# Altium schematic symbol library Memory_card_reader_Schlib1.SchLib: 4 symbols
Pins are listed as number, name and electrical type; pins without a type are passive.

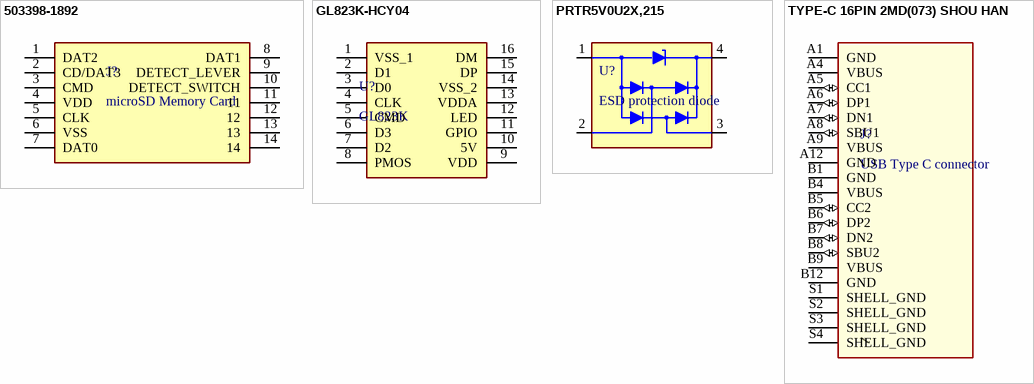
[diagram p0: symbols 503398-1892 to TYPE-C 16PIN 2MD(073) SHOU HAN]

## 503398-1892
designator J?, comment microSD Memory Card
1.10mm Pitch microSD Memory Card Connector, Normal Mount Surface Mount, Push-Push Type, 1.28mm Height; Manufacturer: Molex; Manufacturer Part Number: 503398-1892; Manufacturer Lifecycle Status: ACTIVE; Contact Resistance: 100mΩ; Current Rating: 500mA; Gender: Male; Insulation Resistance: 1GΩ; Memory Format: FLASH; Number of Circuits: 8; Number of Ports: 1; Pitch: 1.1mm; Plating: Tin; Plating Thickness: 508nm; Voltage Rating: 10V; Supplier: RS; Supplier Part Number: 8801277; RoHS: Compliant; Category: Memory Connectors; Stock: 952; Pricing: 1=1.86, 10=1.42, 20=1.39, 50=1.36, 100=1.32 (GBP); China RoHS: Compliant; Connector Type: Connector; Contact Gender: Female; Contact Material: Gold, Tin; Contact Plating: Gold; Country of Origin: VN; Depth: 14.05mm; Export Control Classification Number (ECCN) Code: EAR99; Halogen Free: Low Halogen; Height: 1.4mm; Housing Material: Stainless Steel; Harmonized Tariff Schedule (HTS) Code: 8536.69.40.40; Introduction Date: 2013-02-28; Length: 13.6mm; Lifecycle Status: Production; Max Operating Temperature: 85°C; Min Operating Temperature: -25°C; Mounting Technology: Surface Mount; Number of Contacts: 8; Pins: 8; Number of Rows: 1; Orientation: Right Angle; Packaging: Cut Tape; Radiation Hardening: No; REACH SVHC: Yes; Schedule B: 8536695050, 8536695050|8536695050, 8536695050|8536695050|8536695050, 8536695050|8536695050|8536695050|8536695050; Terminal Pitch: 1.1mm; Termination: Solder; Voltage Rating (AC): 10V; Width: 14.05mm; ComponentLink1URL: https://datasheet.octopart.com:443/503398-1892-Molex-datasheet-180775278.pdf?src-supplier=IHS; ComponentLink1Description: https://datasheet.octopart.com:443/503398-1892-Molex-datasheet-180775278.pdf?src-supplier=IHS; ComponentLink2URL: https://datasheet.octopart.com:443/503398-1892-Molex-datasheet-138898078.pdf?src-supplier=Sager+Electronics; ComponentLink2Description: https://datasheet.octopart.com:443/503398-1892-Molex-datasheet-138898078.pdf?src-supplier=Sager+Electronics; ComponentLink3URL: https://datasheet.octopart.com:443/503398-1892-Molex-datasheet-16405786.pdf?src-supplier=Sager+Electronics; ComponentLink3Description: https://datasheet.octopart.com:443/503398-1892-Molex-datasheet-16405786.pdf?src-supplier=Sager+Electronics; ComponentLink4URL: https://sigma.octopart.com:443/138898079/technical_drawing/Molex-503398-1892.pdf?src-supplier=Upverter; ComponentLink4Description: https://sigma.octopart.com:443/138898079/technical_drawing/Molex-503398-1892.pdf?src-supplier=Upverter; ComponentLink5URL: https://sigma.octopart.com:443/16405789/technical_drawing/Molex-503398-1892.pdf?src-supplier=Molex; ComponentLink5Description: https://sigma.octopart.com:443/16405789/technical_drawing/Molex-503398-1892.pdf?src-supplier=Molex; ComponentLink6URL: https://datasheet.octopart.com:443/503398-1892-Molex-datasheet-66628509.pdf?src-supplier=Farnell; ComponentLink6Description: https://datasheet.octopart.com:443/503398-1892-Molex-datasheet-66628509.pdf?src-supplier=Farnell; ComponentLink7URL: https://datasheet.octopart.com:443/503398-1892-Molex-datasheet-10952502.pdf?src-supplier=Newark; ComponentLink7Description: https://datasheet.octopart.com:443/503398-1892-Molex-datasheet-10952502.pdf?src-supplier=Newark; ComponentLink8URL: https://datasheet.octopart.com:443/503398-1892-Molex-datasheet-62087832.pdf?src-supplier=Newark; ComponentLink8Description: https://datasheet.octopart.com:443/503398-1892-Molex-datasheet-62087832.pdf?src-supplier=Newark; ComponentLink9URL: https://datasheet.octopart.com:443/503398-1892-Molex-datasheet-154753182.pdf?src-supplier=Master+Electronics; ComponentLink9Description: https://datasheet.octopart.com:443/503398-1892-Molex-datasheet-154753182.pdf?src-supplier=Master+Electronics; ComponentLink10URL: https://datasheet.octopart.com:443/503398-1892-Molex-datasheet-17852981.pdf?src-supplier=element14+APAC; ComponentLink10Description: https://datasheet.octopart.com:443/503398-1892-Molex-datasheet-17852981.pdf?src-supplier=element14+APAC; ComponentLink11URL: https://datasheet.octopart.com:443/503398-1892-Molex-datasheet-140185767.pdf?src-supplier=RS+(Formerly+Allied+Electronics); ComponentLink11Description: https://datasheet.octopart.com:443/503398-1892-Molex-datasheet-140185767.pdf?src-supplier=RS+(Formerly+Allied+Electronics); ComponentLink12URL: https://datasheet.octopart.com:443/503398-1892-Molex-datasheet-120152253.pdf?src-supplier=RS+(Formerly+Allied+Electronics); ComponentLink12Description: https://datasheet.octopart.com:443/503398-1892-Molex-datasheet-120152253.pdf?src-supplier=RS+(Formerly+Allied+Electronics); ComponentLink13URL: https://datasheet.octopart.com:443/503398-1892-Molex-datasheet-62059324.pdf?src-supplier=RS+(Formerly+Allied+Electronics); ComponentLink13Description: https://datasheet.octopart.com:443/503398-1892-Molex-datasheet-62059324.pdf?src-supplier=RS+(Formerly+Allied+Electronics); ComponentLink14URL: https://datasheet.octopart.com:443/503398-1892-Molex-datasheet-24577251.pdf?src-supplier=TME; ComponentLink14Description: https://datasheet.octopart.com:443/503398-1892-Molex-datasheet-24577251.pdf?src-supplier=TME; ComponentLink15URL: http://sigma.octopart.com:80/16405788/rohs_statement/Molex-503398-1892.pdf?src-supplier=Compliance+Statements; ComponentLink15Description: http://sigma.octopart.com:80/16405788/rohs_statement/Molex-503398-1892.pdf?src-supplier=Compliance+Statements; ComponentLink16URL: http://sigma.octopart.com:80/reach_statement/Molex-company-74.pdf?src-supplier=Compliance+Statements; ComponentLink16Description: http://sigma.octopart.com:80/reach_statement/Molex-company-74.pdf?src-supplier=Compliance+Statements; ComponentLink17URL: http://sigma.octopart.com:80/rohs_statement/Molex-company-73.pdf?src-supplier=Compliance+Statements; ComponentLink17Description: http://sigma.octopart.com:80/rohs_statement/Molex-company-73.pdf?src-supplier=Compliance+Statements; ComponentLink18URL: http://sigma.octopart.com:80/conflict_mineral_statement/Molex-company-72.pdf?src-supplier=Compliance+Statements; ComponentLink18Description: http://sigma.octopart.com:80/conflict_mineral_statement/Molex-company-72.pdf?src-supplier=Compliance+Statements
footprint 5033981892
pins: 1 DAT2, 2 CD/DAT3, 3 CMD, 4 VDD, 5 CLK, 6 VSS, 7 DAT0, 8 DAT1, 9 DETECT_LEVER, 10 DETECT_SWITCH, 11, 12, 13, 14

## GL823K-HCY04
designator U?, comment GL823K
USB 2.0 card reader controller
footprint SOP64P600X175-16N
pins: 1 VSS_1, 2 D1, 3 D0, 4 CLK, 5 CMD, 6 D3, 7 D2, 8 PMOS, 9 VDD, 10 5V, 11 GPIO, 12 LED, 13 VDDA, 14 VSS_2, 15 DP, 16 DM

## PRTR5V0U2X,215
designator U?, comment ESD protection diode
PRTR Series 9 V 1 pF Rail-to-Rail ESD Protection Diode - SOT-143B; Manufacturer: Nexperia; Manufacturer Part Number: PRTR5V0U2X,215; Manufacturer Lifecycle Status: RELEASED FOR SUPPLY; Breakdown Voltage: 7.5V; Value: 1pF; Direction: Bidirectional; Max Breakdown Voltage: 9V; Min Breakdown Voltage: 6V; Number of Channels: 2; Number of Elements: 1; Operating Supply Voltage: 700mV; Peak Reverse Current: 100nA; Polarity: Unidirectional; Reverse Standoff Voltage: 3V; Supplier: DigiKey; Supplier Part Number: 1727-3884-1-ND; RoHS: Compliant; Category: ESD and Circuit Protection ICs; Pricing: 1=0.66, 10=0.41, 100=0.2626, 500=0.19912, 1000=0.17862, 3000=0.15255, 6000=0.13942, 9000=0.13273, 15000=0.1252, 21000=0.12075, 30000=0.11642, 75000=0.11275 (USD); Ambient Temperature Range High: 85°C; China RoHS: Compliant; Contact Plating: Tin; Country of Origin: Mainland China; Export Control Classification Number (ECCN) Code: EAR99; Height: 1.1mm; Harmonized Tariff Schedule (HTS) Code: 8541.10.00.50; Introduction Date: 2005-09-23; Lifecycle Status: Production; Max Operating Temperature: 85°C; Min Operating Temperature: -40°C; Pins: 4; Number of Terminals: 4; REACH SVHC: Yes; Schedule B: 8541100080, 8541100080|8541100080|8541100080|8541100080|8541100080|8541100080|8541100080|8541100080|8541100080|8541100080|8541100080|8541100080|8541100080|8541100080|8541100080|8541100080|8541100080|8541100080|8541100080|8541100080|8541100080|8541100080|8541100080|85; ComponentLink1URL: https://datasheet.octopart.com:443/PRTR5V0U2X%2C215-Nexperia-datasheet-180924939.pdf?src-supplier=IHS; ComponentLink1Description: https://datasheet.octopart.com:443/PRTR5V0U2X%2C215-Nexperia-datasheet-180924939.pdf?src-supplier=IHS; ComponentLink2URL: https://datasheet.octopart.com:443/PRTR5V0U2X%2C215-Nexperia-datasheet-5405949.pdf?src-supplier=IHS; ComponentLink2Description: https://datasheet.octopart.com:443/PRTR5V0U2X%2C215-Nexperia-datasheet-5405949.pdf?src-supplier=IHS; ComponentLink3URL: https://datasheet.octopart.com:443/PRTR5V0U2X%2C215-Nexperia-datasheet-137756210.pdf?src-supplier=Newark; ComponentLink3Description: https://datasheet.octopart.com:443/PRTR5V0U2X%2C215-Nexperia-datasheet-137756210.pdf?src-supplier=Newark; ComponentLink4URL: https://sigma.octopart.com:443/138810744/technical_drawing/Nexperia-PRTR5V0U2X%2C215.pdf?src-supplier=Upverter; ComponentLink4Description: https://sigma.octopart.com:443/138810744/technical_drawing/Nexperia-PRTR5V0U2X%2C215.pdf?src-supplier=Upverter; ComponentLink5URL: https://datasheet.octopart.com:443/PRTR5V0U2X%2C215-Nexperia-datasheet-87582154.pdf?src-supplier=Nexperia; ComponentLink5Description: https://datasheet.octopart.com:443/PRTR5V0U2X%2C215-Nexperia-datasheet-87582154.pdf?src-supplier=Nexperia; ComponentLink6URL: https://datasheet.octopart.com:443/PRTR5V0U2X%2C215-NXP-Semiconductors-datasheet-15938047.pdf?src-supplier=iiiC; ComponentLink6Description: https://datasheet.octopart.com:443/PRTR5V0U2X%2C215-NXP-Semiconductors-datasheet-15938047.pdf?src-supplier=iiiC; ComponentLink7URL: http://sigma.octopart.com:80/reach_statement/NXP-Semiconductors-company-13.pdf?src-supplier=Compliance+Statements; ComponentLink7Description: http://sigma.octopart.com:80/reach_statement/NXP-Semiconductors-company-13.pdf?src-supplier=Compliance+Statements; ComponentLink8URL: http://sigma.octopart.com:80/rohs_statement/NXP-Semiconductors-company-12.pdf?src-supplier=Compliance+Statements; ComponentLink8Description: http://sigma.octopart.com:80/rohs_statement/NXP-Semiconductors-company-12.pdf?src-supplier=Compliance+Statements
footprint SOT190P230X110-4N
pins: 1 GND, 2 I/O_1, 3 I/O_2, 4 VCC

## TYPE-C 16PIN 2MD(073) SHOU HAN
designator J?, comment USB Type C connector
https://jlcpcb.com/partdetail/ShouHan-TYPE_C_16PIN_2MD_073/C2765186?utm_source=chatgpt.com
footprint CONN16_C16PIN_SHN
pins: A1 GND (power), A4 VBUS (power), A5 CC1 (io), A6 DP1 (io), A7 DN1 (io), A8 SBU1 (io), A9 VBUS (power), A12 GND (power), B1 GND (power), B4 VBUS (power), B5 CC2 (io), B6 DP2 (io), B7 DN2 (io), B8 SBU2 (io), B9 VBUS (power), B12 GND (power), S1 SHELL_GND (power), S2 SHELL_GND (power), S3 SHELL_GND (power), S4 SHELL_GND (power)